# Altium schematic symbol library OL_R.Schlib: 1 symbol
Pins are listed as number, name and electrical type; pins without a type are passive.

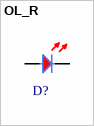
[diagram p0: symbol OL_R]

## OL_R
designator D?  (value not drawn)
LED_RED
pins: 1 C, 2 A